# Altium footprint library ECULIB.PcbLib: 2 footprints
Each footprint in its own frame and in the unit in brackets; x right, y up, seen from the top. Pads: shape width x height; smd on the part's side, far side on the other; paste and mask are expansions set on the pad; w line width, h text height; cw(c..) or ccw(c..) is an arc to the next point about the centre after c.
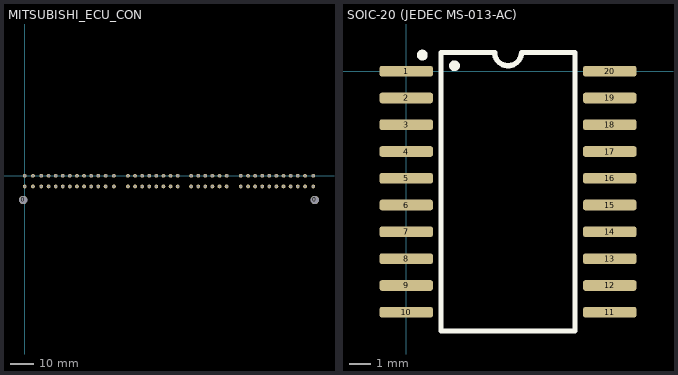
[diagram p0: the footprints below, top view; thin cyan lines are the x and y axes]

## MITSUBISHI_ECU_CON [mm]
pads (78):
  round 3.5 hole 3.5 unplated: 0(-0.65,-10.2) 0(122.65,-10.2)
  round 1.6 hole 1: 1(0,0) 2(3.5,0) 3(7,0) 4(10.1,0) 5(13.1,0) 6(16.1,0) 7(19.1,0) 8(22.1,0) 9(25.1,0) 10(28.1,0) 11(31.1,0) 12(34.2,0) 13(37.7,0) 14(0,-4.5) 15(3.5,-4.5) 16(7,-4.5) 17(10.1,-4.5) 18(13.1,-4.5) 19(16.1,-4.5) 20(19.1,-4.5) 21(22.1,-4.5) 22(25.1,-4.5) 23(28.1,-4.5) 24(31.1,-4.5) 25(34.2,-4.5) 26(37.7,-4.5) 31(43.65,0) 32(46.65,0) 33(49.65,0) 34(52.65,0) 35(55.65,0) 36(58.65,0) 37(61.65,0) 38(64.65,0) 39(43.65,-4.5) 40(46.65,-4.5) 41(49.65,-4.5) 42(52.65,-4.5) 43(55.65,-4.5) 44(58.65,-4.5) 45(61.65,-4.5) 46(64.65,-4.5) 51(70.35,0) 52(73.35,0) 53(76.35,0) 54(79.35,0) 55(82.35,0) 56(85.35,0) 57(70.35,-4.5) 58(73.35,-4.5) 59(76.35,-4.5) 60(79.35,-4.5) 61(82.35,-4.5) 62(85.35,-4.5) 71(91.3,0) 72(94.4,0) 73(97.4,0) 74(100.4,0) 75(103.4,0) 76(106.4,0) 77(109.4,0) 78(112.4,0) 79(115.4,0) 80(118.5,0) 81(122,0) 82(91.3,-4.5) 83(94.4,-4.5) 84(97.4,-4.5) 85(100.4,-4.5) 86(103.4,-4.5) 87(106.4,-4.5) 88(109.4,-4.5) 89(112.4,-4.5) 90(115.4,-4.5) 91(118.5,-4.5) 92(122,-4.5)
3D body: height 21.9, standoff -4, extent -3.85,-25.495 125.85,0.325

## SOIC-20 (JEDEC MS-013-AC) [mil]
pads (20):
  rrect50% 100x20 smd: 1(0,0) 2(0,-50) 3(0,-100) 4(0,-150) 5(0,-200) 6(0,-250) 7(0,-300) 8(0,-350) 9(0,-400) 10(0,-450) 11(379.92,-450) 12(379.92,-400) 13(379.92,-350) 14(379.92,-300) 15(379.92,-250) 16(379.92,-200) 17(379.92,-150) 18(379.92,-100) 19(379.92,-50) 20(379.92,0)
Top Overlay:
  circle w10: c90,10 r5
  circle w10: c30,30 r5
  lines w9.84: 65,-485 65,35 165,35 ccw(c190,35) 215,35 315,35 315,-485 65,-485
3D body: height 106.3, standoff 0, extent -12.8,-476.97 392.72,26.97